# EAGLE library part ESP-12E (library custom)
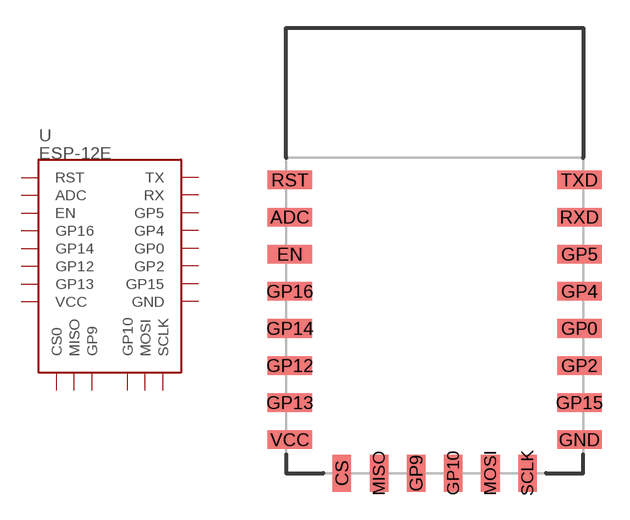
[diagram p116: symbol with the pads of ESP-12E; footprint ESP-12E]

Designator prefix U

## ESP-12E  [ESP-12E]
ADC  ADC
CS  CS0
EN  EN
GND  GND
GP0  GP0
GP2  GP2
GP4  GP4
GP5  GP5
GP9  GP9
GP10  GP10
GP12  GP12
GP13  GP13
GP14  GP14
GP15  GP15
GP16  GP16
MISO  MISO
MOSI  MOSI
RST  RST
RXD  RX
SCLK  SCLK
TXD  TX
VCC  VCC

## Footprint ESP-12E (pad centres in mm)
smd 2.4 x 1: ADC -7.8,1.8; EN -7.8,-0.2; GND 7.8,-10.2; GP0 7.8,-4.2; GP2 7.8,-6.2; GP4 7.8,-2.2; GP5 7.8,-0.2; GP12 -7.8,-6.2; GP13 -7.8,-8.2; GP14 -7.8,-4.2; GP15 7.8,-8.2; GP16 -7.8,-2.2; RST -7.8,3.8; RXD 7.8,1.8; TXD 7.8,3.8; VCC -7.8,-10.2
smd 1 x 2: CS -5,-12; GP9 -1,-12; GP10 1,-12; MISO -3,-12; MOSI 3,-12; SCLK 5,-12